# Altium footprint library LITEON LTST-C21KRKT.PCBLIB: 1 footprints
Each footprint in its own frame and in the unit in brackets; x right, y up, seen from the top. Pads: shape width x height; smd on the part's side, far side on the other; paste and mask are expansions set on the pad; w line width, h text height; cw(c..) or ccw(c..) is an arc to the next point about the centre after c.
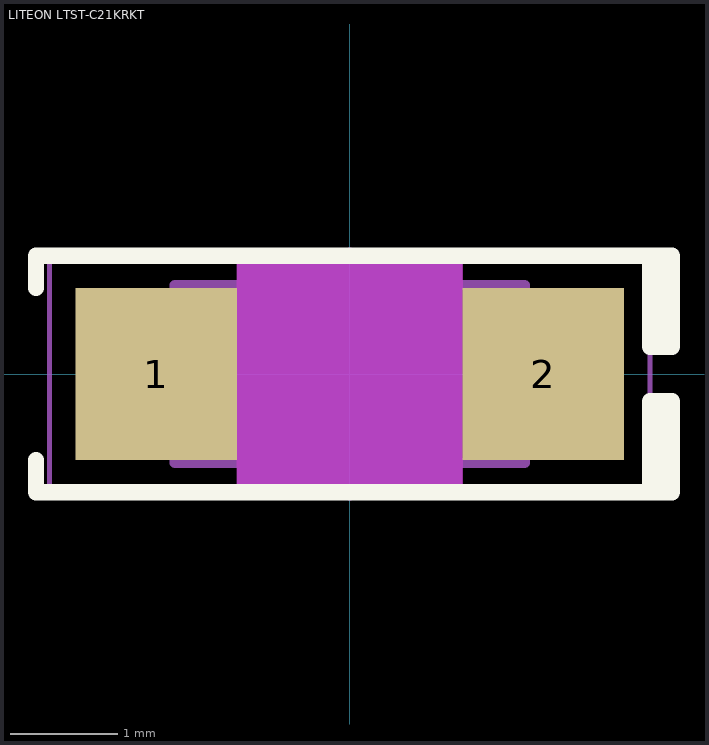
[diagram p0: the footprint, top view; thin cyan lines are the x and y axes]

## LITEON LTST-C21KRKT [mm] "Chip Diode, 2-Leads, Body 3.13x1.55mm, IPC Medium Density"
height 0.7
pads (2):
  rect 1.5x1.6 smd: 1(-1.8,0) 2(1.8,0)
Top Overlay:
  rectangle: 2.794,-1.1 3,-0.254
  rectangle: 2.794,0.254 3,1.1
  lines w0.15: -2.921,-0.8 -2.921,-1.1 2.794,-1.1 ; -2.921,0.8 -2.921,1.1 2.794,1.1 ; 2.794,-1.1 3,-1.1 3,-0.254 2.794,-0.254 2.794,-1.1 ; 2.794,1.1 3,1.1 3,0.254 2.794,0.254 2.794,1.1
Keep-Out Layer:
  board cut-out: -1.05,1.15 -1.05,-1.15 1.05,-1.15 1.05,1.15
Mechanical 13:
  lines w0.1: -1.625,-0.825 1.625,-0.825 1.625,0.825 -1.625,0.825 -1.625,-0.825
  lines w0.15: -0.762,0 -0.508,0 ; 0,-1.1 0,1.1 ; 0.254,0 0,0 ; 0,0 -0.508,-0.381 -0.508,0.381 0,0
Mechanical 15:
  lines w0.05: -2.794,-1.1 2.794,-1.1 2.794,1.1 -2.794,1.1 -2.794,-1.1
  lines w0.1: -0.5,0 0.5,0 ; 0,-0.5 0,0.5
MILLING:
  rectangle: -1.05,-1.15 1.05,1.15
3D body "LED 1206 Lens RED.STEP": height 0, standoff -0.6, extent -0.75,-0.8 0.75,0.8
3D body "LED 1206 Base RED.STEP": height 0.3, standoff -0.1, extent -1.6,-0.8 1.6,0.8